# Altium schematic symbol library R.SchLib: 90 symbols (part 2 of 2)
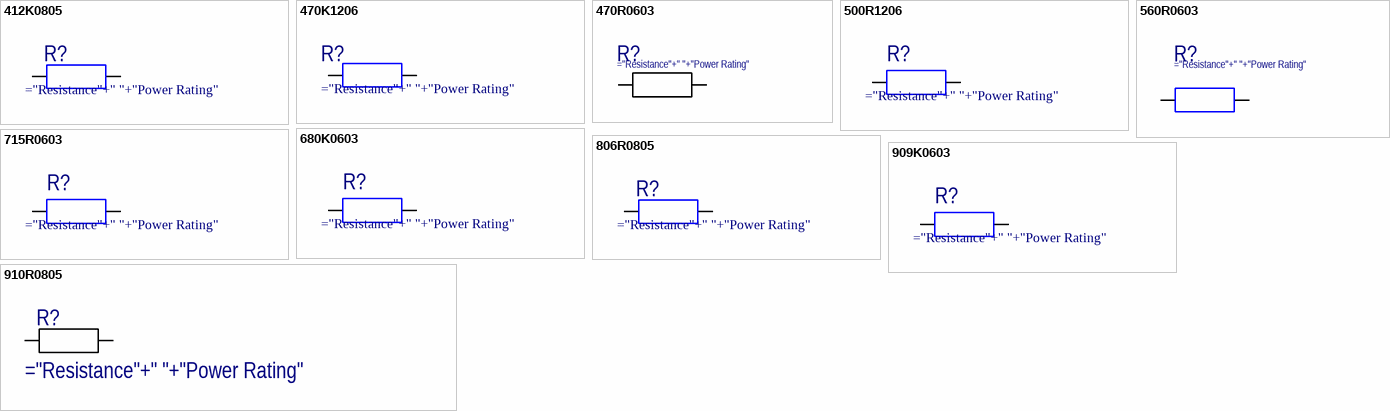
[diagram p3: symbols 412K0805 to 910R0805]

## 560R0603
designator R?
RES SMD 560 OHM 1% 1/4W 0603; Manufacturer: Rohm; Manufacturer Part Number: ESR03EZPF5600; Max Power Dissipation: 250mW; Temperature Coefficient: 100ppm/°C; Resistance: 560R; Supplier 1: Digi-Key; RoHS: Yes; Category: Chip SMD Resistors; Stock 1: 19519; Pricing 1: 1=0,13000, 10=0,11400, 100=0,04400, 1000=0,01936, 2500=0,01672 (USD); Case/Package: 0603; Case Code (Imperial): 0603; Case Code (Metric): 1608; Min Operating Temperature: -55°C; Max Operating Temperature: 155°C; Features: Automotive AEC-Q200; Resistor Type: Thick Film; Number of Terminations: 2; Package Quantity: 1; Power Rating: 250mW; Tolerance: 1%; Packaging: Tape and Reel; Length: 0.063inch; Width: 0.031inch; Height: 0.022inch; Lead Free: Lead Free; ComponentLink1URL: https://datasheet.ciiva.com/2498/esr-2498353.pdf?src-supplier=Digi-Key; ComponentLink1Description: https://datasheet.ciiva.com/2498/esr-2498353.pdf?src-supplier=Digi-Key; ComponentLink2URL: https://datasheet.ciiva.com/2498/esr-2498354.pdf?src-supplier=Digi-Key; ComponentLink2Description: https://datasheet.ciiva.com/2498/esr-2498354.pdf?src-supplier=Digi-Key; ComponentLink3URL: https://datasheet.ciiva.com/2498/esr-2498355.pdf?src-supplier=Digi-Key; ComponentLink3Description: https://datasheet.ciiva.com/2498/esr-2498355.pdf?src-supplier=Digi-Key; ComponentLink4URL: https://datasheet.ciiva.com/16439/esr-16439967.pdf?src-supplier=Future+Electronics; ComponentLink4Description: https://datasheet.ciiva.com/16439/esr-16439967.pdf?src-supplier=Future+Electronics; Supplier Part Number 1: RHM560ADCT-ND
footprint RESC1608X06N/0603 (Chip Resistor, 2-Leads, Body 1,60x0,82mm, IPC Medium Density)
pins: 1, 2

## 680K0603
designator R?
RES SMD 680K OHM 1% 1/4W 0603; Manufacturer: Panasonic Electronic Components; Manufacturer Part Number: ERJ-PA3F6803V; SMD: 1
footprint RESC1608X06N/0603 (Footprint not found)
pins: 1, 2

## 715R0603
designator R?
RES 715 OHM 1% 1/8W 0603; Manufacturer Part Number: RK73H1JTTD7150F; Manufacturer: KOA Speer Electronics, Inc.; SMD: 1
footprint RESC1608X06N/0603 (Chip Resistor, 2-Leads, Body 1,60x0,82mm, IPC Medium Density)
pins: 1, 2

## 806R0805
designator R?
RES SMD 806 OHM 1% 1/8W 0805; Manufacturer Part Number: ERJ-6ENF8060V; Manufacturer: Panasonic; SMD: 1
footprint RESC2012X07N/0805 (Chip Resistor, 2-Leads, Body 2,00x1,25mm, IPC Medium Density)
pins: 1, 2

## 909K0603
designator R?
RES SMD 909K OHM 1% 1/8W 0603; Manufacturer Part Number: MCT06030C9093FP500; Manufacturer: Vishay Beyschlag; SMD: 1
footprint RESC1608X06N/0603 (Chip Resistor, 2-Leads, Body 1,60x0,82mm, IPC Medium Density)
pins: 1, 2

## 910R0805
designator R?
RES SMD 910 OHM 5% 1/2W 0805; Manufacturer Part Number: ERJ-P06J911V; Manufacturer: Panasonic; Voltage Rating (DC): 150V; Max Power Dissipation: 500mW; Temperature Coefficient: 200ppm/°C; Resistance: 910R; SMD: 1; Supplier 1: Digi-Key; RoHS: Yes; Category: Chip SMD Resistors; Stock 1: 11988; Pricing 1: 1=0,10000, 10=0,09400, 100=0,03600, 1000=0,01584, 2500=0,01368 (USD); Mount: Surface Mount; Case/Package: 0805; Case Code (Metric): 2012; Case Code (Imperial): 0805; Contact Plating: Tin; Min Operating Temperature: -55°C; Max Operating Temperature: 155°C; Resistor Type: Thick Film; Number of Terminations: 2; Features: Automotive AEC-Q200; Power Rating: 500mW; Tolerance: 5%; Packaging: Tape and Reel; Package Quantity: 1; Voltage Rating: 150V; Length: 0.079inch; Width: 0.049inch; Height: 0.028inch; Radiation Hardening: No; Lead Free: Contains Lead; ComponentLink1URL: https://datasheet.ciiva.com/24041/aoa0000ce4-64075-24041854.pdf?src-supplier=Mouser; ComponentLink1Description: https://datasheet.ciiva.com/24041/aoa0000ce4-64075-24041854.pdf?src-supplier=Mouser; ComponentLink2URL: https://datasheet.ciiva.com/9179/aoa0000ce4-9179544.pdf?src-supplier=Avnet; ComponentLink2Description: https://datasheet.ciiva.com/9179/aoa0000ce4-9179544.pdf?src-supplier=Avnet; ComponentLink3URL: https://datasheet.ciiva.com/17205/aoa0000ce4-17205033.pdf?src-supplier=Avnet+Europe; ComponentLink3Description: https://datasheet.ciiva.com/17205/aoa0000ce4-17205033.pdf?src-supplier=Avnet+Europe; Supplier Part Number 1: P910ADCT-ND
footprint RESC2012X07N/0805 (Chip Resistor, 2-Leads, Body 2,00x1,25mm, IPC Medium Density)
pins: 1, 2